# EAGLE library part 39-30-?16? (library con-molex-mini-fit)
HEADER
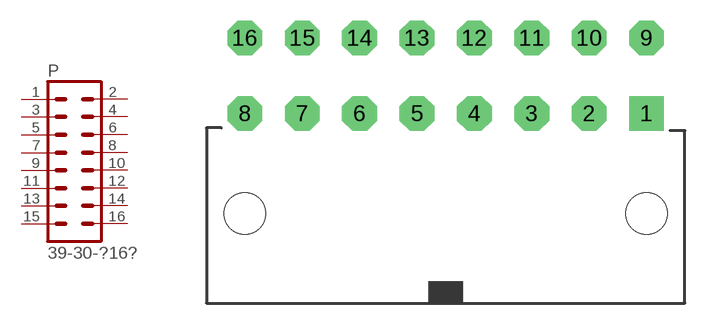
[diagram p5: symbol with the pads of 39-30-?16?; footprint 39-30-?16?]

Designator prefix P

## 39-30-16  [39-30-?16?]
1  1  pas
2  2  pas
3  3  pas
4  4  pas
5  5  pas
6  6  pas
7  7  pas
8  8  pas
9  9  pas
10  10  pas
11  11  pas
12  12  pas
13  13  pas
14  14  pas
15  15  pas
16  16  pas

## Footprint 39-30-?16? (pad centres in mm)
HEADER
drill 1.422 pad 2.54 square: 1 14.668,0
drill 1.422 pad 2.54 octagon: 2 10.477,0; 3 6.287,0; 4 2.095,0; 5 -2.095,0; 6 -6.287,0; 7 -10.477,0; 8 -14.668,0; 9 14.668,5.512; 10 10.477,5.512; 11 6.287,5.512; 12 2.095,5.512; 13 -2.095,5.512; 14 -6.287,5.512; 15 -10.477,5.512; 16 -14.668,5.512
hole 3 at -14.668,-7.3
hole 3 at 14.668,-7.3